# Altium footprint library QFN50P400X400X100-25N-D.PcbLib: 1 footprints
Each footprint in its own frame and in the unit in brackets; x right, y up, seen from the top. Pads: shape width x height; smd on the part's side, far side on the other; paste and mask are expansions set on the pad; w line width, h text height; cw(c..) or ccw(c..) is an arc to the next point about the centre after c.
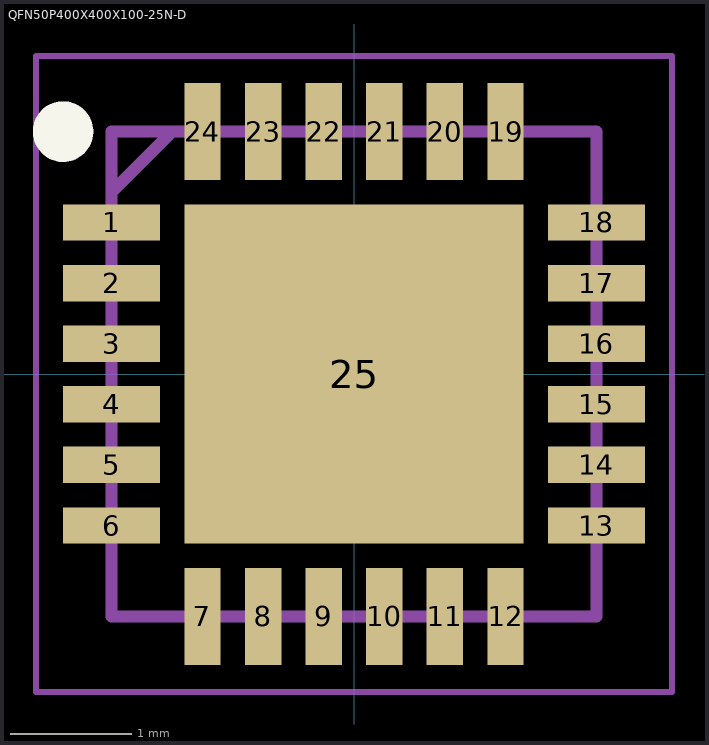
[diagram p0: the footprint, top view; thin cyan lines are the x and y axes]

## QFN50P400X400X100-25N-D [mm]
pads (25):
  rect 0.8x0.3 smd: 1(-2,1.25) 2(-2,0.75) 3(-2,0.25) 4(-2,-0.25) 5(-2,-0.75) 6(-2,-1.25) 13(2,-1.25) 14(2,-0.75) 15(2,-0.25) 16(2,0.25) 17(2,0.75) 18(2,1.25)
  rect 0.3x0.8 smd: 7(-1.25,-2) 8(-0.75,-2) 9(-0.25,-2) 10(0.25,-2) 11(0.75,-2) 12(1.25,-2) 19(1.25,2) 20(0.75,2) 21(0.25,2) 22(-0.25,2) 23(-0.75,2) 24(-1.25,2)
  rect 2.8x2.8 smd: 25(0,0)
Top Overlay:
  circle w0.25: c-2.4,2 r0.125
Mechanical 13:
  lines w0.1: -2,1.5 -1.5,2 ; -2,-2 -2,2 2,2 2,-2 -2,-2
Mechanical 15:
  lines w0.05: -2.625,-2.625 -2.625,2.625 2.625,2.625 2.625,-2.625 -2.625,-2.625
3D body "TRS3122ERGER.stp": height 1, standoff 0, extent -2.05,-2.05 2.05,2.05